# Altium schematic symbol library XRCGB24M000F0L00R0.SchLib: 1 symbol
Pins are listed as number, name and electrical type; pins without a type are passive.

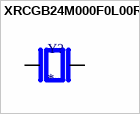
[diagram p0: symbol XRCGB24M000F0L00R0]

## XRCGB24M000F0L00R0
designator Y?
27MHz Â±20ppm Crystal 6pF 150 Ohms 4-SMD, No Lead; MF: Murata; MP: XRCGB24M000F0L00R0; Price: None; Availability: Unavailable; Value: *; Package: None
footprint OSC_XRCGB24M000F0L00R0
pins: 1, 3